# Altium footprint library WL-SBCD.PcbLib: 2 footprints
Each footprint in its own frame and in the unit in brackets; x right, y up, seen from the top. Pads: shape width x height; smd on the part's side, far side on the other; paste and mask are expansions set on the pad; w line width, h text height; cw(c..) or ccw(c..) is an arc to the next point about the centre after c.
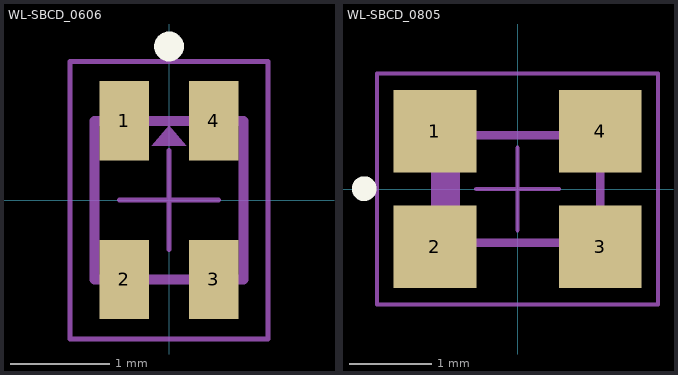
[diagram p0: the footprints below, top view; thin cyan lines are the x and y axes]

## WL-SBCD_0606 [mm] "SMT Bi-color Chip LED Diffuesed, body 1.5x1.6mm"
height 0.55
pads (4):
  rect 0.5x0.8 smd: 1(-0.45,0.8) 2(-0.45,-0.8) 3(0.45,-0.8) 4(0.45,0.8)
Top Overlay:
  circle w0.15: c0,1.55 r0.075
Top Designator:
  text ".Designator" at -2.499,-0.167 h0.5
Top Component Outline:
  region: -0.175,0.55 0.003,0.753 -0.003,0.753 0.175,0.55
  lines w0.1: -0.75,-0.8 0.75,-0.8 0.75,0.8 -0.75,0.8 -0.75,-0.8
Top Courtyard:
  lines w0.05: -0.5,0 0.5,0 ; 0,-0.5 0,0.5 ; -1,-1.4 -1,1.4 1,1.4 1,-1.4 -1,-1.4
3D body "150066xx54050.stp": height 0.55, standoff 0, extent -0.75,-0.8 0.75,0.8

## WL-SBCD_0805 [mm] "SMT Bi-color Chip LED Diffuesed, body 2x1.3mm"
height 0.5
pads (4):
  rect 1x1 smd: 1(-1,0.7) 2(-1,-0.7) 3(1,-0.7) 4(1,0.7)
Top Overlay:
  circle w0.15: c-1.857,0.004 r0.075
Top Designator:
  text ".Designator" at -2.499,-0.167 h0.5
Top Component Outline:
  rectangle: -1,-0.65 -0.7,0.65
  lines w0.1: -1,-0.65 -1,0.65 1,0.65 1,-0.65 -1,-0.65
Top Courtyard:
  lines w0.05: -0.5,0 0.5,0 ; 0,-0.5 0,0.5 ; -1.7,-1.4 -1.7,1.4 1.7,1.4 1.7,-1.4 -1.7,-1.4
3D body "150080xx54050.stp": height 0.5, standoff 0, extent -1,-0.65 1,0.65